# Altium footprint library ICL_PCB_production.PcbLib: 3 footprints
Each footprint in its own frame and in the unit in brackets; x right, y up, seen from the top. Pads: shape width x height; smd on the part's side, far side on the other; paste and mask are expansions set on the pad; w line width, h text height; cw(c..) or ccw(c..) is an arc to the next point about the centre after c.
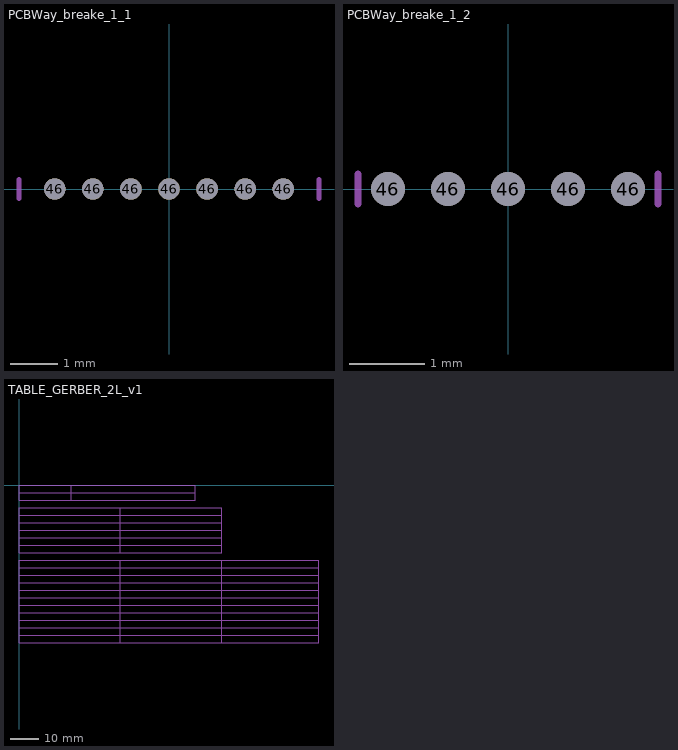
[diagram p0: the footprints below, top view; thin cyan lines are the x and y axes]

## PCBWay_breake_1_1 [mm]
pads (7):
  round 0.45 hole 0.45 unplated mask+0: 46(-2.4,0) 46(-1.6,0) 46(-0.8,0) 46(0,0) 46(0.8,0) 46(1.6,0) 46(2.4,0)
Mechanical 15:
  lines w0.1: -3.15,-0.2 -3.15,0.2 ; 3.15,-0.2 3.15,0.2

## PCBWay_breake_1_2 [mm] "hole 0.3mm distance 0,55mm bridge 0,25mm"
pads (5):
  round 0.45 hole 0.45 unplated mask+0: 46(-1.6,0) 46(-0.8,0) 46(0,0) 46(0.8,0) 46(1.6,0)
Mechanical 15:
  lines w0.1: -2,-0.2 -2,0.2 ; 2,-0.2 2,0.2

## TABLE_GERBER_2L_v1 [mm]
Mechanical 9:
  lines w0.1: 0,-2.6 18.1,-2.6 ; 18.1,-5.2 18.1,-2.6 ; 18.1,0 18.1,-2.6 ; 35,-7.8 35,-10.4 35,-13 ; 60.9,-2.6 18.1,-2.6 ; 0,-52 0,-54.6 35,-54.6 ; 0,-52 35,-52 ; 0,-52 0,-49.4 ; 0,-49.4 35,-49.4 ; 0,-49.4 0,-46.8 ; 0,-46.8 35,-46.8 ; 0,-46.8 0,-44.2 ; 0,-44.2 35,-44.2 ; 0,-44.2 0,-41.6 ; 0,-41.6 35,-41.6 ; 0,-41.6 0,-39 ; 0,-39 35,-39 ; 0,-39 0,-36.4 ; 0,-36.4 35,-36.4 ; 0,-36.4 0,-33.8 ; 0,-33.8 35,-33.8 ; 0,-33.8 0,-31.2 ; 0,-31.2 35,-31.2 ; 0,-31.2 0,-28.6 0,-26 35,-26 ; 0,-20.8 35,-20.8 ; 0,-20.8 0,-18.2 ; 0,-20.8 0,-23.4 35,-23.4 ; 0,-18.2 35,-18.2 ; 0,-18.2 0,-15.6 ; 0,-15.6 35,-15.6 ; 0,-15.6 0,-13 ; 0,-13 35,-13 ; 0,-13 0,-10.4 ; 0,-10.4 0,-7.8 70,-7.8 70,-10.4 ; 0,-10.4 70,-10.4 ; 35,-54.6 35,-52 ; 35,-54.6 70,-54.6 ; 35,-52 35,-49.4 ; 35,-52 70,-52 ; 35,-49.4 35,-46.8 ; 35,-49.4 70,-49.4 ; 35,-46.8 35,-44.2 ; 35,-46.8 70,-46.8 ; 35,-44.2 35,-41.6 ; 35,-44.2 70,-44.2 ; 35,-41.6 35,-39 ; 35,-41.6 70,-41.6 ; 35,-39 35,-36.4 ; 35,-39 70,-39 ; 35,-36.4 35,-33.8 ; 35,-36.4 70,-36.4 ; 35,-33.8 35,-31.2 ; 35,-33.8 70,-33.8 ; 35,-31.2 35,-28.6 35,-26 ; 35,-31.2 70,-31.2 ; 35,-26 70,-26 ; 35,-23.4 35,-20.8 ; 35,-23.4 70,-23.4 70,-20.8 ; 35,-20.8 35,-18.2 ; 35,-20.8 70,-20.8 ; 35,-18.2 35,-15.6 ; 35,-18.2 70,-18.2 ; 35,-15.6 35,-13 ; 35,-15.6 70,-15.6 ; 35,-13 70,-13 ; 70,-54.6 70,-52 ; 70,-54.6 103.7,-54.6 103.7,-52 ; 70,-52 70,-49.4 ; 70,-52 103.7,-52 ; 70,-49.4 70,-46.8 ; 70,-49.4 103.7,-49.4 ; 70,-46.8 70,-44.2 ; 70,-46.8 103.7,-46.8 ; 70,-44.2 70,-41.6 ; 70,-44.2 103.7,-44.2 ; 70,-41.6 70,-39 ; 70,-41.6 103.7,-41.6 ; 70,-39 70,-36.4 ; 70,-39 103.7,-39 ; 70,-36.4 70,-33.8 ; 70,-36.4 103.7,-36.4 ; 70,-33.8 70,-31.2 ; 70,-33.8 103.7,-33.8 ; 70,-31.2 70,-28.6 ; 70,-31.2 103.7,-31.2 ; 70,-28.6 70,-26 ; 70,-28.6 70,-26 ; 70,-26 103.7,-26 103.7,-28.6 103.7,-31.2 ; 70,-20.8 70,-18.2 ; 70,-18.2 70,-15.6 ; 70,-15.6 70,-13 ; 70,-13 70,-10.4 ; 103.7,-52 103.7,-49.4 ; 103.7,-49.4 103.7,-46.8 ; 103.7,-46.8 103.7,-44.2 ; 103.7,-44.2 103.7,-41.6 ; 103.7,-41.6 103.7,-39 ; 103.7,-39 103.7,-36.4 ; 103.7,-36.4 103.7,-33.8 ; 103.7,-33.8 103.7,-31.2
  lines w0.3: 0,-28.6 35,-28.6 70,-28.6 103.7,-28.6 ; 0,-5.2 0,-2.6 0,0 18.1,0 60.9,0 60.9,-5.2 0,-5.2
  text "*.GBL" at 71.4,-53.7 h1.2
  text "Bottom Layer" at 45.15,-53.7 h1.2
  text "BOTTOM Copper" at 0.45,-53.7 h1.2
  text "*.GTL" at 71.4,-51.1 h1.2
  text "Top Layer" at 45.15,-51.1 h1.2
  text "TOP Copper" at 0.45,-51.1 h1.2
  text "*.GBS" at 71.4,-48.5 h1.2
  text "Bottom Solder" at 45.15,-48.7 h1.2
  text "Solder mask BOTTOM" at 0.45,-48.7 h1.2
  text "*.GTS" at 71.4,-45.9 h1.2
  text "Top Solder" at 45.15,-45.9 h1.2
  text "Solder mask TOP" at 0.45,-46.1 h1.2
  text "V-Cut path layer" at 0.7,-38.2 h1.2
  text "*.GBO" at 71.4,-43.3 h1.2
  text "*.GTO" at 71.4,-40.9 h1.2
  text "Bottom Overlay" at 45.15,-43.3 h1.2
  text "Top Overlay" at 45.236,-40.7 h1.2
  text "Description layer BOTTOM" at 0.45,-43.3 h1.2
  text "Description layer TOP" at 0.45,-40.6 h1.2
  text "PROJECT NAME:" at 0.486,-2 h1.4
  text "PCB REV:" at 3.985,-4.6 h1.4
  text "some name of propject - fill up" at 18.75,-1.7 h1.2
  text "PCB revision number" at 18.75,-4.5 h1.2
  text "Number of Layer" at 1.15,-9.5 h1.2
  text "PCB description" at 0.3,-7.267 h1.4
  text "Panel size" at 1.2,-14.9 h1.2
  text "Single PCB size" at 0.95,-12.4 h1.2
  text "Panel matrix (X x Y)" at 0.95,-17.6 h1.2
  text "Separation method" at 0.75,-19.9 h1.2
  text "MIlling cutter diameter" at 0.95,-22.4 h1.2
  text "V-cut" at 36.45,-20.1 h1.2
  text "NA" at 36.55,-22.8 h1.2
  text "2" at 36.25,-9.7 h1.2
  text "X mm x Ymm" at 36.45,-12.3 h1.2
  text "X mm x Ymm" at 36.55,-14.9 h1.2
  text "X x Y = Z" at 36.7,-17.4 h1.2
  text "Layers description" at 0.3,-25.167 h1.4
  text "Function:" at 0.818,-27.8 h1.4
  text "Gerber File extension" at 71.105,-28 h1.4
  text "Layer Name" at 45.336,-27.767 h1.4
  text "NA" at 71.45,-35.7 h1.2
  text "*.GM2" at 71.4,-38.2 h1.2
  text "*.GM1" at 71.15,-33.2 h1.2
  text "*.GM3" at 71.15,-30.4 h1.2
  text "Mechanical 2" at 45.25,-38.2 h1.2
  text "NA" at 45.236,-35.5 h1.2
  text "MIlling path layer" at 0.75,-35.4 h1.2
  text "Mechanical 1" at 45.236,-33.1 h1.2
  text "Single PCB outline" at 0.85,-32.8 h1.2
  text "Mechanical 3" at 45.236,-30.5 h1.2
  text "Panel outline layer" at 0.85,-30.2 h1.2